# Altium schematic symbol library PEME2-5-S5-D.SchLib: 1 symbol
Pins are listed as number, name and electrical type; pins without a type are passive.

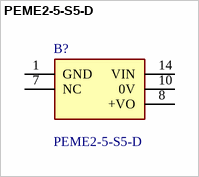
[diagram p0: symbol PEME2-5-S5-D]

## PEME2-5-S5-D
designator B?
Isolated DC/DC Converters - Through Hole dc-dc isolated, 2 W, 4.5-5.5 Vdc input, 5 Vdc, 400 mA, single unregulated output, DIP; Manufacturer_Name: CUI Inc.; Geometry.Height: 8.45mm; Manufacturer_Part_Number: PEME2-5-S5-D; Mouser Part Number: *; Mouser Price/Stock: *; Arrow Part Number: *; Arrow Price/Stock: *; Datasheet Link: https://www.cui.com/product/resource/supplyframepdf/peme2-d.pdf
footprint PEME25S5D
pins: 1 GND, 7 NC, 8 +VO, 10 0V, 14 VIN